# EAGLE library part 2X3_50MIL (library NR_conn)
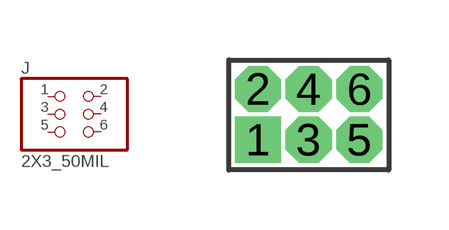
[diagram p0: symbol with the pads of 50MIL_2X3; footprint 50MIL_2X3]

Designator prefix J

## 2X3_50MIL  [50MIL_2X3]
1  1  pas
2  2  pas
3  3  pas
4  4  pas
5  5  pas
6  6  pas

## Footprint 50MIL_2X3 (pad centres in mm)
drill 0.65 square: 1 -1.27,0
drill 0.65 octagon: 2 -1.27,1.27; 3 0,0; 4 0,1.27; 5 1.27,0; 6 1.27,1.27